# Altium footprint library Lamp.PcbLib: 1 footprints
Each footprint in its own frame and in the unit in brackets; x right, y up, seen from the top. Pads: shape width x height; smd on the part's side, far side on the other; paste and mask are expansions set on the pad; w line width, h text height; cw(c..) or ccw(c..) is an arc to the next point about the centre after c.
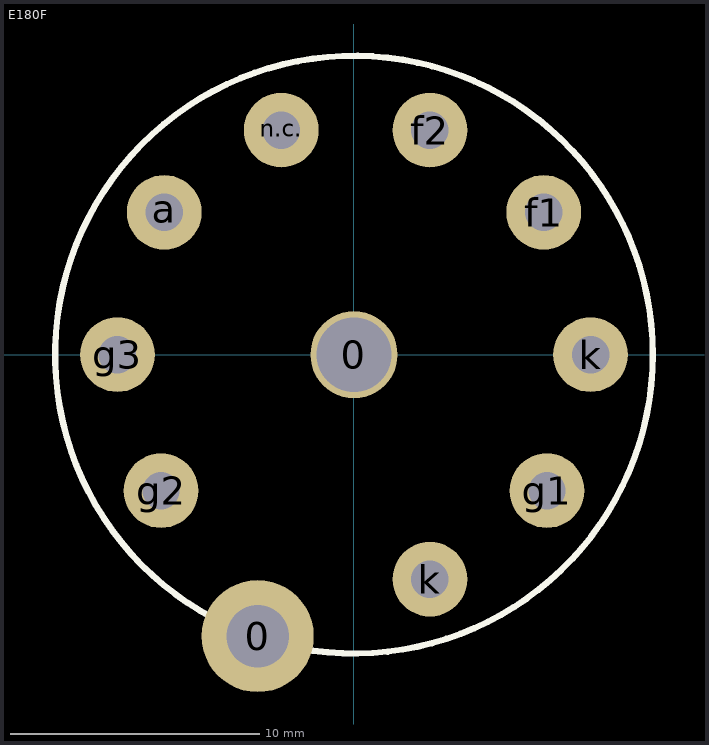
[diagram p0: the footprint, top view; thin cyan lines are the x and y axes]

## E180F [mm]
pads (11):
  round 4.5 hole 2.5: 0(-3.867,-11.303)
  round 3.5 hole 3: 0(0,0)
  round 3 hole 1.5: a(-7.62,5.715) f1(7.62,5.715) f2(3.048,9.017) g1(7.747,-5.461) g2(-7.747,-5.461) g3(-9.5,0) k(3.048,-9.017) k(9.5,0) n.c.(-2.921,9.017)
Top Overlay:
  circle w0.254: c0,0 r12
3D body: height 25, standoff 5, extent -9.991,-9.998 10,9.998
3D body: height 2, standoff -4, extent -6.367,-13.803 -1.367,-8.803
3D body: height 2, standoff -4, extent -1,-1 1,1
3D body: height 2, standoff -4, extent -3.721,8.217 -2.121,9.817
3D body: height 2, standoff -4, extent 2.248,8.217 3.848,9.817
3D body: height 2, standoff -4, extent 6.82,4.915 8.42,6.515
3D body: height 2, standoff -4, extent 8.7,-0.8 10.3,0.8
3D body: height 2, standoff -4, extent 6.947,-6.261 8.547,-4.661
3D body: height 2, standoff -4, extent 2.248,-9.817 3.848,-8.217
3D body: height 2, standoff -4, extent -8.547,-6.261 -6.947,-4.661
3D body: height 2, standoff -4, extent -10.3,-0.8 -8.7,0.8
3D body: height 2, standoff -4, extent -8.42,4.915 -6.82,6.515
3D body: height 50, standoff 30, extent -9.991,-9.998 10,9.998
3D body: height 9, standoff 5, extent -12,-11.997 12,11.997
3D body: height 10, standoff 0, extent -8.5,-8.498 8.5,8.498
3D body: height 40, standoff 12, extent -10,-9.996 10,9.997